# EAGLE library part K293KP3AT (library unt)
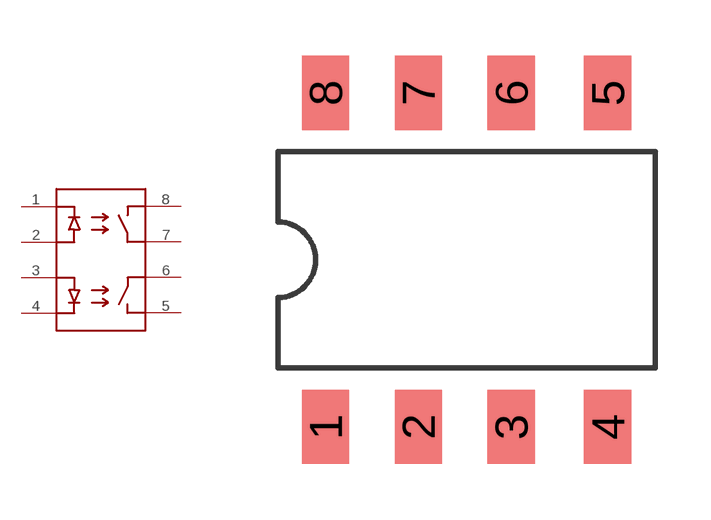
[diagram p1: symbol with the pads of DIL08-SMD; footprint DIL08-SMD]

Designator prefix -

## K293KP3AT  [DIL08-SMD]
1  P$1
2  P$2
3  P$3
4  P$4
5  P$5
6  P$6
7  P$7
8  P$8

## Footprint DIL08-SMD (pad centres in mm)
Dual In Line Package
smd 1.27 x 2: 1 -3.8,-4.5; 2 -1.3,-4.5; 3 1.2,-4.5; 4 3.8,-4.5; 5 3.8,4.5; 6 1.2,4.5; 7 -1.3,4.5; 8 -3.8,4.5